# Altium schematic symbol library TCAN332DR.SchLib: 1 symbol
Pins are listed as number, name and electrical type; pins without a type are passive.

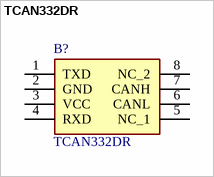
[diagram p0: symbol TCAN332DR]

## TCAN332DR
designator B?
TEXAS INSTRUMENTS - TCAN332DR - CAN TRANSCEIVER, 5MBPS, SOIC-8; Geometry.Height: 1.75mm; Manufacturer_Name: Texas Instruments; Manufacturer_Part_Number: TCAN332DR; Mouser Part Number: 595-TCAN332DR; Mouser Price/Stock: https://www.mouser.co.uk/ProductDetail/Texas-Instruments/TCAN332DR?qs=n%252BTO0c4TDSYIUeM9WmVMtA%3D%3D; Arrow Part Number: TCAN332DR; Arrow Price/Stock: https://www.arrow.com/en/products/tcan332dr/texas-instruments?region=nac; Datasheet Link: http://www.ti.com/lit/ds/symlink/tcan332.pdf
footprint SOIC127P600X175-8N
pins: 1 TXD, 2 GND, 3 VCC, 4 RXD, 5 NC_1, 6 CANL, 7 CANH, 8 NC_2